# Altium footprint library CAP-1206.PcbLib: 1 footprints
Each footprint in its own frame and in the unit in brackets; x right, y up, seen from the top. Pads: shape width x height; smd on the part's side, far side on the other; paste and mask are expansions set on the pad; w line width, h text height; cw(c..) or ccw(c..) is an arc to the next point about the centre after c.
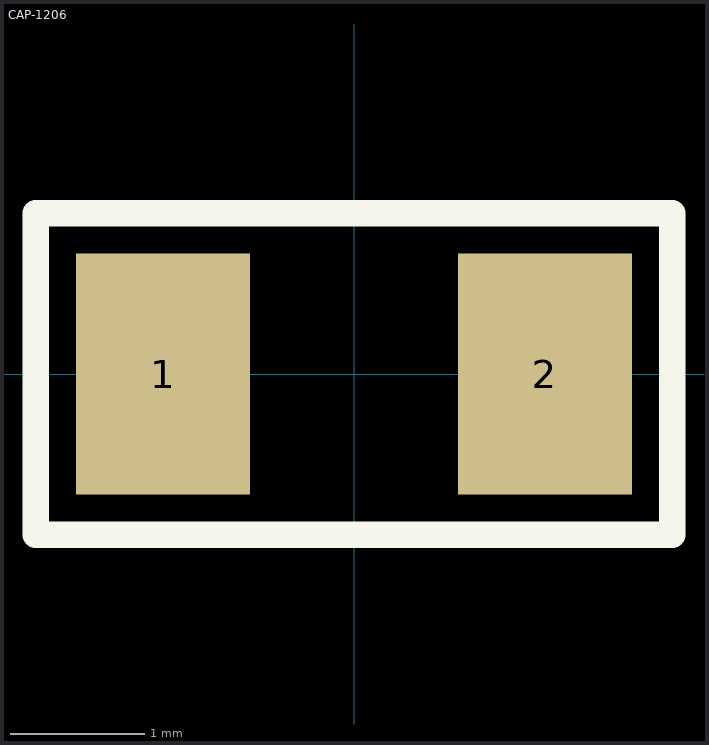
[diagram p0: the footprint, top view; thin cyan lines are the x and y axes]

## CAP-1206 [mm]
height 0.95
pads (2):
  rect 1.3x1.8 smd: 1(-1.425,0) 2(1.425,0)
Top Overlay:
  lines w0.2: -2.375,-1.2 -2.375,1.2 2.375,1.2 2.375,-1.2 -2.375,-1.2
Top Assembly:
  lines w0.1: -2.35,-1.175 2.35,-1.175 2.35,1.175 -2.35,1.175 -2.35,-1.175
  text "'.Designator'" at -0.925,-0.325 h0.7
3D body: height 0.95, standoff 0, extent 1.175,-0.875 1.675,0.875
3D body: height 0.95, standoff 0, extent -1.175,-0.875 1.175,0.875
3D body: height 0.95, standoff 0, extent -1.675,-0.875 -1.175,0.875